# Altium schematic symbol library Schlib1.SchLib: 1 symbol
Pins are listed as number, name and electrical type; pins without a type are passive.

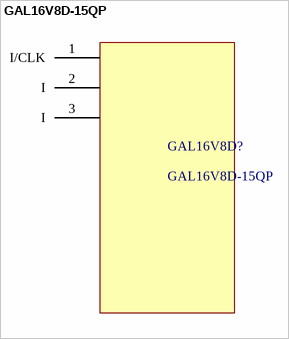
[diagram p0: symbol GAL16V8D-15QP]

## GAL16V8D-15QP
designator GAL16V8D?
pins: 1 I/CLK, 2 I, 3 I